# EAGLE library part MXC4005XC (library MXC4005XC)
Accelerometers Monolithic and Wafer Level Packaged Three-Axis Accelerometer Source: Datasheet <https://datasheet.datasheetarchive.com/originals/distributors/Datasheets_SAMA/aa0fcdfc55209a6ab2215b00180fe2f1.pdf>
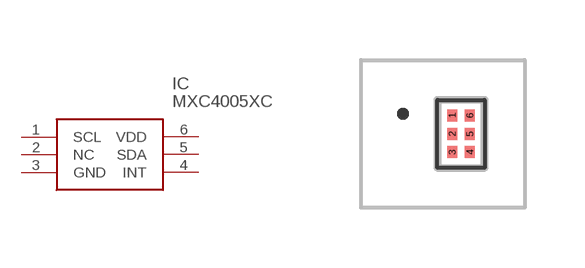
[diagram p0: symbol with the pads of MXC4005XC; footprint MXC4005XC]

Designator prefix IC

## MXC4005XC (Description: Accelerometers Monolithic and Wafer Level Packaged Three-Axis Accelerometer; Height: 0.885mm; Manufacturer_Name: MEMSIC; Manufacturer_Part_Number: MXC4005XC; Mouser_Part_Number: 438-MXC4005XC; Mouser_Price-Stock: https://www.mouser.co.uk/ProductDetail/MEMSIC/MXC4005XC?qs=RcG8xmE7yp3iyYgWLmAtUw%3D%3D)  [MXC4005XC]
1  SCL
2  NC  nc
3  GND
4  INT
5  SDA
6  VDD

## Footprint MXC4005XC (pad centres in mm)
MXC4005XC-2
smd 0.25 x 0.3: 1 -0.22,0.46; 2 -0.22,0; 3 -0.22,-0.46; 4 0.22,-0.46; 5 0.22,0; 6 0.22,0.46